# Altium schematic symbol library SI5344.SchLib: 1 symbol
Pins are listed as number, name and electrical type; pins without a type are passive.

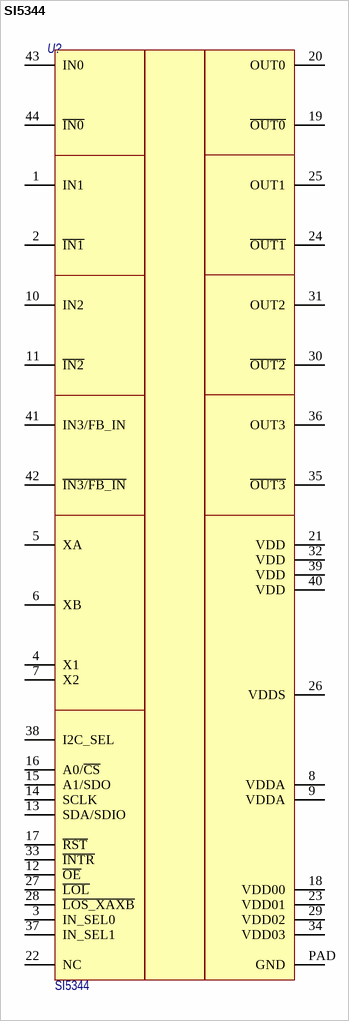
[diagram p0: symbol SI5344]

## SI5344
designator U?
4-channel Jitter Attenuator; Потреблене: 1.0; Назначение: 4-channel Jitter Attenuator; Наименование: SI5344
footprint QFN-44_EP_7x7 (44 Pin QFN with Exposed PAD, 7.0x7.0mm)
pins: 1 IN1, 2 ~{IN1}, 3 IN_SEL0, 4 X1, 5 XA, 6 XB, 7 X2, 8 VDDA, 9 VDDA, 10 IN2, 11 ~{IN2}, 12 ~{OE}, 13 SDA/SDIO, 14 SCLK, 15 A1/SDO, 16 A0/~{CS}, 17 ~{RST}, 18 VDD00, 19 ~{OUT0}, 20 OUT0, 21 VDD, 22 NC, 23 VDD01, 24 ~{OUT1}, 25 OUT1, 26 VDDS, 27 ~{LOL}, 28 ~{LOS_XAXB}, 29 VDD02, 30 ~{OUT2}, 31 OUT2, 32 VDD, 33 ~{INTR}, 34 VDD03, 35 ~{OUT3}, 36 OUT3, 37 IN_SEL1, 38 I2C_SEL, 39 VDD, 40 VDD, 41 IN3/FB_IN, 42 ~{IN3/FB_IN}, 43 IN0, 44 ~{IN0}, PAD GND